# EAGLE library part PINHD-1X6 (library JLB6_Connec)
Pin header 6 positions
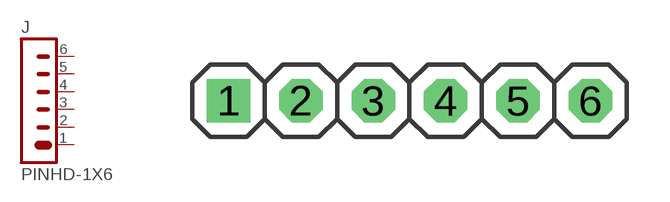
[diagram p65: symbol with the pads of 1X6-254; footprint 1X6-254]

Designator prefix J

## PINHD-1X6  [1X6-254]
1  1  pas
2  2  pas
3  3  pas
4  4  pas
5  5  pas
6  6  pas

## Footprint 1X6-254 (pad centres in mm)
drill 1.016 square: 1 0,0
drill 1.016 octagon: 2 2.54,0; 3 5.08,0; 4 7.62,0; 5 10.16,0; 6 12.7,0